# Altium integrated library NXP Semiconductors Standard MOSFETs.IntLib: 477 symbols (part 5 of 14)
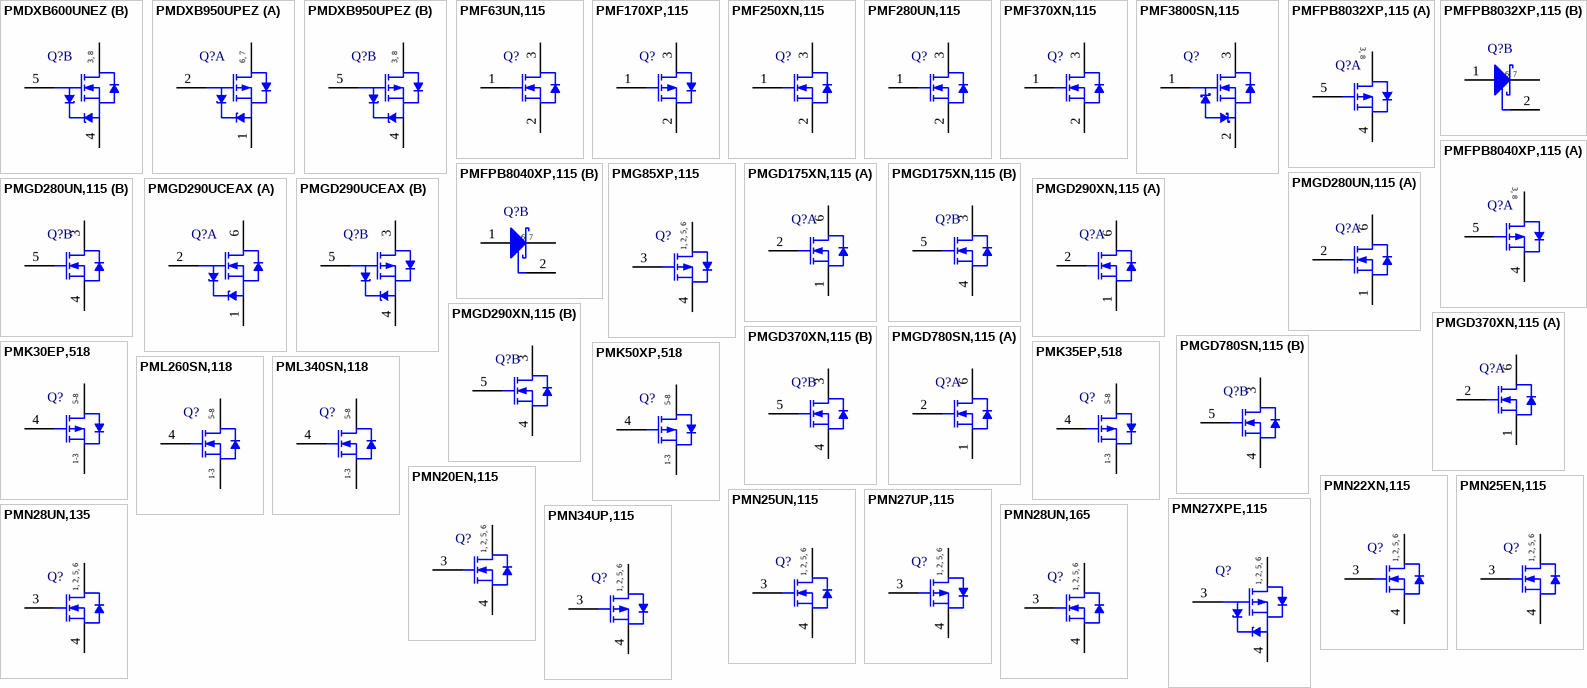
[diagram p16: symbols PMDXB600UNEZ to PMN34UP,115]

## PMDXB950UPEZ
designator Q?
Dual P-Channel Trench MOSFET, -20 V, -0.5 A, -55 to 150 degC, 8-Pin SOT1216; Manufacturer: NXP Semiconductors; PartNumber: PMDXB950UPEZ; Channel Type: P; Ciss [typ] (pF): 43; Coss [typ] (pF): 14; VGSth [typ] (V): -0.7; DatasheetVersion: Rev. 1; PackageVersion: 13-03-06, 03/2013; PackageReference: SOT1216; PackageDescription: 6-Pin Small Outline No-Lead, Body 1.1 x 1 mm, Pitch 0.35 mm; Supplier 1: Digi-Key; Supplier Part Number 1: PMDXB950UPEZ-ND; Supplier 2: Newark; Supplier Part Number 2: 23X8429; Supplier 3: Mouser; Supplier Part Number 3: 771-PMDXB950UPEZ; ID [max] (A): -0.5; VDS [max] (V): -20; Mounting Technology: Surface Mount; ComponentLink1Description: Manufacturer URL; ComponentLink1URL: http://www.nxp.com/; ComponentLink2Description: Datasheet; ComponentLink2URL: http://www.nxp.com/documents/data_sheet/PMDXB950UPE.pdf; ComponentLink3Description: Package Specification; ComponentLink3URL: http://www.nxp.com/documents/outline_drawing/sot1216_po.pdf
footprint NXP-SOT1216_N (SON, 6-Leads, Body 1.15x1.05mm, Pitch 0.35mm, 2X Thermal Pad 0.35x0.25mm, IPC Medium Density)
footprint NXP-SOT1216_L (SON, 6-Leads, Body 1.15x1.05mm, Pitch 0.35mm, 2X Thermal Pad 0.35x0.25mm, IPC High Density)
footprint NXP-SOT1216_M (SON, 6-Leads, Body 1.15x1.05mm, Pitch 0.35mm, 2X Thermal Pad 0.35x0.25mm, IPC Low Density)
part A pins: 1 S1 "sourse TR1", 2 G1 "gate TR1", 6 D1 "drain TR1", 7 D1 "drain TR1"
part B pins: 3 D2 "drain TR2", 4 S2 "sourse TR2", 5 G2 "gate TR2", 8 D2 "drain TR2"
part A text: 6, 7
part B text: 3, 8

## PMF63UN,115
designator Q?
Single N-Channel Trench MOSFET, 20 V, -55 to 150 degC, 3-Pin SOT323, Tape and Reel; Manufacturer: NXP Semiconductors; PartNumber: PMF63UN,115; Channel Type: N; Ciss [typ] (pF): 185; Coss [typ] (pF): 53; Packing: Tape & Reel; VDS [max] (V): 20; VGSth [typ] (V): 0.7; DatasheetVersion: Rev. 1; PackageVersion: 06-03-16, 03/2006; PackageReference: SOT323; PackageDescription: 3-Pin Small Outline Transistor Package, Body 2 x 1.25 mm, Pitch 0.65 mm; Supplier 1: Digi-Key; Supplier Part Number 1: 568-10785-2-ND; Supplier 2: Digi-Key; Supplier Part Number 2: 568-10785-1-ND; Supplier 3: Digi-Key; Supplier Part Number 3: 568-10785-6-ND; Supplier 4: Mouser; Supplier Part Number 4: 771-PMF63UN115; Mounting Technology: Surface Mount; Code_JEITA: SC-70; ComponentLink1Description: Manufacturer URL; ComponentLink1URL: http://www.nxp.com/; ComponentLink2Description: Datasheet; ComponentLink2URL: http://www.nxp.com/documents/data_sheet/PMF63UN.pdf; ComponentLink3Description: Package Specification; ComponentLink3URL: http://www.nxp.com/documents/outline_drawing/sot323_po.pdf
footprint NXP-SOT323_N (SOT23, 3-Leads, Body 2.2x1.35mm, Pitch 0.65mm, IPC Medium Density)
footprint NXP-SOT323_L (SOT23, 3-Leads, Body 2.2x1.35mm, Pitch 0.65mm, IPC High Density)
footprint NXP-SOT323_M (SOT23, 3-Leads, Body 2.2x1.35mm, Pitch 0.65mm, IPC Low Density)
pins: 1 G "gate", 2 S "source", 3 D "drain"

## PMF170XP,115
designator Q?
P-Channel Trench MOSFET, -20 V, -1 A, -55 to 150 degC, 3-Pin SOT323, Tape and Reel; Manufacturer: NXP Semiconductors; PartNumber: PMF170XP,115; Channel Type: P; Ciss [typ] (pF): 280; Coss [typ] (pF): 43; Packing: Tape & Reel; VGSth [typ] (V): -0.9; DatasheetVersion: Rev. 2; PackageVersion: 06-03-16, 03/2006; PackageReference: SOT323; PackageDescription: 3-Pin Small Outline Transistor Package, Body 2 x 1.25 mm, Pitch 0.65 mm; Supplier 1: Digi-Key; Supplier Part Number 1: 568-10415-2-ND; Supplier 2: Digi-Key; Supplier Part Number 2: 568-10415-1-ND; Supplier 3: Digi-Key; Supplier Part Number 3: 568-10415-6-ND; Supplier 4: Mouser; Supplier Part Number 4: 771-PMF170XP115; ID [max] (A): -1; VDS [max] (V): -20; Mounting Technology: Surface Mount; Code_JEITA: SC-70; ComponentLink1Description: Manufacturer URL; ComponentLink1URL: http://www.nxp.com/; ComponentLink2Description: Datasheet; ComponentLink2URL: http://www.nxp.com/documents/data_sheet/PMF170XP.pdf; ComponentLink3Description: Package Specification; ComponentLink3URL: http://www.nxp.com/documents/outline_drawing/sot323_po.pdf
footprint NXP-SOT323_N (SOT23, 3-Leads, Body 2.2x1.35mm, Pitch 0.65mm, IPC Medium Density)
footprint NXP-SOT323_L (SOT23, 3-Leads, Body 2.2x1.35mm, Pitch 0.65mm, IPC High Density)
footprint NXP-SOT323_M (SOT23, 3-Leads, Body 2.2x1.35mm, Pitch 0.65mm, IPC Low Density)
pins: 1 G "gate", 2 S "source", 3 D "drain"

## PMF250XN,115
designator Q?
N-Channel Trench MOSFET, 30 V, 0.9 A, -55 to 150 degC, 3-Pin SOT323, Tape and Reel; Manufacturer: NXP Semiconductors; PartNumber: PMF250XN,115; Channel Type: N; Ciss [typ] (pF): 50; Coss [typ] (pF): 10; ID [max] (A): 0.9; Packing: Tape & Reel; VDS [max] (V): 30; VGSth [typ] (V): 1; DatasheetVersion: Rev. 1; PackageVersion: 06-03-16, 03/2006; PackageReference: SOT323; PackageDescription: 3-Pin Small Outline Transistor Package, Body 2 x 1.25 mm, Pitch 0.65 mm; Supplier 1: Digi-Key; Supplier Part Number 1: 568-10784-2-ND; Supplier 2: Digi-Key; Supplier Part Number 2: 568-10784-1-ND; Supplier 3: Digi-Key; Supplier Part Number 3: 568-10784-6-ND; Supplier 4: Mouser; Supplier Part Number 4: 771-PMF250XN,115; Mounting Technology: Surface Mount; Code_JEITA: SC-70; ComponentLink1Description: Manufacturer URL; ComponentLink1URL: http://www.nxp.com/; ComponentLink2Description: Datasheet; ComponentLink2URL: http://www.nxp.com/documents/data_sheet/PMF250XN.pdf; ComponentLink3Description: Package Specification; ComponentLink3URL: http://www.nxp.com/documents/outline_drawing/sot323_po.pdf
footprint NXP-SOT323_N (SOT23, 3-Leads, Body 2.2x1.35mm, Pitch 0.65mm, IPC Medium Density)
footprint NXP-SOT323_L (SOT23, 3-Leads, Body 2.2x1.35mm, Pitch 0.65mm, IPC High Density)
footprint NXP-SOT323_M (SOT23, 3-Leads, Body 2.2x1.35mm, Pitch 0.65mm, IPC Low Density)
pins: 1 G "gate", 2 S "source", 3 D "drain"

## PMF280UN,115
designator Q?
N-Channel uTrenchMOS(TM) Ultra Low Level FET, 20 V, 1.02 A, 3-Pin SOT323, Tape and Reel; Manufacturer: NXP Semiconductors; PartNumber: PMF280UN,115; Channel Type: N; Ciss [typ] (pF): 45; Coss [typ] (pF): 11; ID [max] (A): 1.02; Packing: Tape & Reel; VDS [max] (V): 20; VGSth [typ] (V): 0.7; DatasheetVersion: Rev. 01; PackageVersion: 06-03-16, 03/2006; PackageReference: SOT323; PackageDescription: 3-Pin Small Outline Transistor Package, Body 2 x 1.25 mm, Pitch 0.65 mm; Supplier 1: Digi-Key; Supplier Part Number 1: 568-7413-2-ND; Supplier 2: Digi-Key; Supplier Part Number 2: 568-7413-1-ND; Supplier 3: Digi-Key; Supplier Part Number 3: 568-7413-6-ND; Supplier 4: Farnell; Supplier Part Number 4: 1758094RL; Supplier 5: Farnell; Supplier Part Number 5: 1758094; Supplier 6: Newark; Supplier Part Number 6: 79R2031; Supplier 7: Mouser; Supplier Part Number 7: 771-PMF280UN115; Mounting Technology: Surface Mount; Code_JEITA: SC-70; ComponentLink1Description: Manufacturer URL; ComponentLink1URL: http://www.nxp.com/; ComponentLink2Description: Datasheet; ComponentLink2URL: http://www.nxp.com/documents/data_sheet/PMF280UN.pdf; ComponentLink3Description: Package Specification; ComponentLink3URL: http://www.nxp.com/documents/outline_drawing/sot323_po.pdf
footprint NXP-SOT323_N (SOT23, 3-Leads, Body 2.2x1.35mm, Pitch 0.65mm, IPC Medium Density)
footprint NXP-SOT323_L (SOT23, 3-Leads, Body 2.2x1.35mm, Pitch 0.65mm, IPC High Density)
footprint NXP-SOT323_M (SOT23, 3-Leads, Body 2.2x1.35mm, Pitch 0.65mm, IPC Low Density)
pins: 1 G "gate", 2 S "source", 3 D "drain"

## PMF370XN,115
designator Q?
N-Channel TrenchMOS Extremely Low Level FET, 30 V, 0.87 A, 3-Pin SOT323, Tape and Reel; Manufacturer: NXP Semiconductors; PartNumber: PMF370XN,115; Channel Type: N; Ciss [typ] (pF): 37; Coss [typ] (pF): 8.5; ID [max] (A): 0.87; Packing: Tape & Reel; VDS [max] (V): 30; VGSth [typ] (V): 1; DatasheetVersion: Rev. 03; PackageVersion: 06-03-16, 03/2006; PackageReference: SOT323; PackageDescription: 3-Pin Small Outline Transistor Package, Body 2 x 1.25 mm, Pitch 0.65 mm; Supplier 1: Digi-Key; Supplier Part Number 1: 568-6871-2-ND; Supplier 2: Digi-Key; Supplier Part Number 2: 568-6871-1-ND; Supplier 3: Digi-Key; Supplier Part Number 3: 568-6871-6-ND; Supplier 4: Farnell; Supplier Part Number 4: 1758096RL; Supplier 5: Farnell; Supplier Part Number 5: 1758096; Supplier 6: Newark; Supplier Part Number 6: 34R4569; Supplier 7: Newark; Supplier Part Number 7: 79R2033; Supplier 8: Mouser; Supplier Part Number 8: 771-PMF370XN115; Mounting Technology: Surface Mount; Code_JEITA: SC-70; ComponentLink1Description: Manufacturer URL; ComponentLink1URL: http://www.nxp.com/; ComponentLink2Description: Datasheet; ComponentLink2URL: http://www.nxp.com/documents/data_sheet/PMF370XN.pdf; ComponentLink3Description: Package Specification; ComponentLink3URL: http://www.nxp.com/documents/outline_drawing/sot323_po.pdf
footprint NXP-SOT323_N (SOT23, 3-Leads, Body 2.2x1.35mm, Pitch 0.65mm, IPC Medium Density)
footprint NXP-SOT323_L (SOT23, 3-Leads, Body 2.2x1.35mm, Pitch 0.65mm, IPC High Density)
footprint NXP-SOT323_M (SOT23, 3-Leads, Body 2.2x1.35mm, Pitch 0.65mm, IPC Low Density)
pins: 1 G "gate", 2 S "source", 3 D "drain"

## PMF3800SN,115
designator Q?
N-Channel TrenchMOS Standard Level FET, 60 V, 0.26 A, 3-Pin SOT323, Tape and Reel; Manufacturer: NXP Semiconductors; PartNumber: PMF3800SN,115; Channel Type: N; Ciss [typ] (pF): 13; Coss [typ] (pF): 8; ID [max] (A): 0.26; Packing: Tape & Reel; Qr [typ] (nC): 30; VDS [max] (V): 60; VGSth [typ] (V): 2; DatasheetVersion: Rev. 03; PackageVersion: 06-03-16, 03/2006; PackageReference: SOT323; PackageDescription: 3-Pin Small Outline Transistor Package, Body 2 x 1.25 mm, Pitch 0.65 mm; Supplier 1: Digi-Key; Supplier Part Number 1: 568-11275-2-ND; Supplier 2: Digi-Key; Supplier Part Number 2: 568-11275-1-ND; Supplier 3: Digi-Key; Supplier Part Number 3: 568-11275-6-ND; Supplier 4: Mouser; Supplier Part Number 4: 771-PMF3800SN,115; Mounting Technology: Surface Mount; Code_JEITA: SC-70; ComponentLink1Description: Manufacturer URL; ComponentLink1URL: http://www.nxp.com/; ComponentLink2Description: Datasheet; ComponentLink2URL: http://www.nxp.com/documents/data_sheet/PMF3800SN.pdf; ComponentLink3Description: Package Specification; ComponentLink3URL: http://www.nxp.com/documents/outline_drawing/sot323_po.pdf
footprint NXP-SOT323_N (SOT23, 3-Leads, Body 2.2x1.35mm, Pitch 0.65mm, IPC Medium Density)
footprint NXP-SOT323_L (SOT23, 3-Leads, Body 2.2x1.35mm, Pitch 0.65mm, IPC High Density)
footprint NXP-SOT323_M (SOT23, 3-Leads, Body 2.2x1.35mm, Pitch 0.65mm, IPC Low Density)
pins: 1 G, 2 S, 3 D

## PMFPB8032XP,115
designator Q?
P-Channel MOSFET-Schottky Combination, -20 V, -55 to 150 degC, 8-Pin SOT1118, Reel; Manufacturer: NXP Semiconductors; PartNumber: PMFPB8032XP,115; Channel Type: P; Ciss [typ] (pF): 550; Coss [typ] (pF): 63; VGSth [typ] (V): -0.6; DatasheetVersion: Rev. 1; PackageVersion: 13-06-06, 06/2013; PackageReference: SOT1118; PackageDescription: 6-Pin Small Outline No-Lead, Body 2 x 2 mm, Pitch 0.65 mm; Supplier 1: Digi-Key; Supplier Part Number 1: 568-10788-2-ND; Supplier 2: Digi-Key; Supplier Part Number 2: 568-10788-1-ND; Supplier 3: Digi-Key; Supplier Part Number 3: 568-10788-6-ND; Supplier 4: Mouser; Supplier Part Number 4: 771-PMFPB8032XP,115; Packing: Reel; VDS [max] (V): -20; Mounting Technology: Surface Mount; ComponentLink1Description: Manufacturer URL; ComponentLink1URL: http://www.nxp.com/; ComponentLink2Description: Datasheet; ComponentLink2URL: http://www.nxp.com/documents/data_sheet/PMFPB8032XP.pdf; ComponentLink3Description: Package Specification; ComponentLink3URL: http://www.nxp.com/documents/outline_drawing/sot1118_po.pdf
footprint NXP-SOT1118_N (SON, 6-Leads, Body 2.1x2.1mm, Pitch 0.65mm, 2X Thermal Pad 0.67x1 mm, IPC Medium Density)
footprint NXP-SOT1118_L (SON, 6-Leads, Body 2.1x2.1mm, Pitch 0.65mm, 2X Thermal Pad 0.67x1 mm, IPC High Density)
footprint NXP-SOT1118_M (SON, 6-Leads, Body 2.1x2.1mm, Pitch 0.65mm, 2X Thermal Pad 0.67x1 mm, IPC Low Density)
part A pins: 3 D "drain", 4 S "source", 5 G "gate", 8 D "drain"
part B pins: 1 A "anode", 2 NC "not connected", 6 K "cathode", 7 K "cathode"
part A text: 3, 8
part B text: 6, 7

## PMFPB8040XP,115
designator Q?
P-Channel MOSFET-Schottky Combination, -20 V, -55 to 150 degC, 8-Pin SOT1118, Reel; Manufacturer: NXP Semiconductors; PartNumber: PMFPB8040XP,115; Channel Type: P; Ciss [typ] (pF): 550; Coss [typ] (pF): 63; VGSth [typ] (V): -0.6; DatasheetVersion: Rev. 1; PackageVersion: 13-06-06, 06/2013; PackageReference: SOT1118; PackageDescription: 6-Pin Small Outline No-Lead, Body 2 x 2 mm, Pitch 0.65 mm; Supplier 1: Digi-Key; Supplier Part Number 1: 568-10789-2-ND; Supplier 2: Digi-Key; Supplier Part Number 2: 568-10789-1-ND; Supplier 3: Digi-Key; Supplier Part Number 3: 568-10789-6-ND; Supplier 4: Mouser; Supplier Part Number 4: 771-PMFPB8040XP,115; Packing: Reel; VDS [max] (V): -20; Mounting Technology: Surface Mount; ComponentLink1Description: Manufacturer URL; ComponentLink1URL: http://www.nxp.com/; ComponentLink2Description: Datasheet; ComponentLink2URL: http://www.nxp.com/documents/data_sheet/PMFPB8040XP.pdf; ComponentLink3Description: Package Specification; ComponentLink3URL: http://www.nxp.com/documents/outline_drawing/sot1118_po.pdf
footprint NXP-SOT1118_N (SON, 6-Leads, Body 2.1x2.1mm, Pitch 0.65mm, 2X Thermal Pad 0.67x1 mm, IPC Medium Density)
footprint NXP-SOT1118_L (SON, 6-Leads, Body 2.1x2.1mm, Pitch 0.65mm, 2X Thermal Pad 0.67x1 mm, IPC High Density)
footprint NXP-SOT1118_M (SON, 6-Leads, Body 2.1x2.1mm, Pitch 0.65mm, 2X Thermal Pad 0.67x1 mm, IPC Low Density)
part A pins: 3 D "drain", 4 S "source", 5 G "gate", 8 D "drain"
part B pins: 1 A "anode", 2 NC "not connected", 6 K "cathode", 7 K "cathode"
part A text: 3, 8
part B text: 6, 7

## PMG85XP,115
designator Q?
P-Channel Trench MOSFET, -20 V, -2 A, -55 to 150 degC, 6-Pin SOT363, Tape and Reel; Manufacturer: NXP Semiconductors; PartNumber: PMG85XP,115; Channel Type: P; Ciss [typ] (pF): 560; Coss [typ] (pF): 80; Packing: Tape & Reel; VGSth [typ] (V): -0.9; DatasheetVersion: Rev. 1; PackageVersion: 06-03-16, 03/2006; PackageReference: SOT363; PackageDescription: 6-Pin Small Outline Transistor Package, Body 2 x 1.25 mm, Pitch 0.65 mm; Supplier 1: Digi-Key; Supplier Part Number 1: 568-10791-2-ND; Supplier 2: Digi-Key; Supplier Part Number 2: 568-10791-1-ND; Supplier 3: Digi-Key; Supplier Part Number 3: 568-10791-6-ND; Supplier 4: Mouser; Supplier Part Number 4: 771-PMG85XP115; ID [max] (A): -2; VDS [max] (V): -20; Mounting Technology: Surface Mount; Code_JEITA: SC-88; ComponentLink1Description: Manufacturer URL; ComponentLink1URL: http://www.nxp.com/; ComponentLink2Description: Datasheet; ComponentLink2URL: http://www.nxp.com/documents/data_sheet/PMG85XP.pdf; ComponentLink3Description: Package Specification; ComponentLink3URL: http://www.nxp.com/documents/outline_drawing/sot363_po.pdf
footprint NXP-SOT363_N (SOT23, 6-Leads, Body 2.2x1.35mm, Pitch 0.65mm, IPC Medium Density)
footprint NXP-SOT363_L (SOT23, 6-Leads, Body 2.2x1.35mm, Pitch 0.65mm, IPC High Density)
footprint NXP-SOT363_M (SOT23, 6-Leads, Body 2.2x1.35mm, Pitch 0.65mm, IPC Low Density)
pins: 1 D "drain", 2 D "drain", 3 G "gate", 4 S "source", 5 D "drain", 6 D "drain"
text: 1, 2, 5, 6

## PMGD175XN,115
designator Q?
Dual N-Channel Trench MOSFET, 30 V, -55 to 150 degC, 6-Pin SOT363, Tape and Reel; Manufacturer: NXP Semiconductors; PartNumber: PMGD175XN,115; Channel Type: N; Ciss [typ] (pF): 75; Coss [typ] (pF): 30; Packing: Tape & Reel; VGSth [typ] (V): 1; DatasheetVersion: Rev. 1; PackageVersion: 06-03-16, 03/2006; PackageReference: SOT363; PackageDescription: 6-Pin Small Outline Transistor Package, Body 2 x 1.25 mm, Pitch 0.65 mm; Supplier 1: Digi-Key; Supplier Part Number 1: 568-10793-2-ND; Supplier 2: Digi-Key; Supplier Part Number 2: 568-10793-1-ND; Supplier 3: Digi-Key; Supplier Part Number 3: 568-10793-6-ND; Supplier 4: Newark; Supplier Part Number 4: 45W9005; Supplier 5: Mouser; Supplier Part Number 5: 771-PMGD175XN115; VDS [max] (V): 30; Mounting Technology: Surface Mount; Code_JEITA: SC-88; ComponentLink1Description: Manufacturer URL; ComponentLink1URL: http://www.nxp.com/; ComponentLink2Description: Datasheet; ComponentLink2URL: http://www.nxp.com/documents/data_sheet/PMGD175XN.pdf; ComponentLink3Description: Package Specification; ComponentLink3URL: http://www.nxp.com/documents/outline_drawing/sot363_po.pdf
footprint NXP-SOT363_N (SOT23, 6-Leads, Body 2.2x1.35mm, Pitch 0.65mm, IPC Medium Density)
footprint NXP-SOT363_L (SOT23, 6-Leads, Body 2.2x1.35mm, Pitch 0.65mm, IPC High Density)
footprint NXP-SOT363_M (SOT23, 6-Leads, Body 2.2x1.35mm, Pitch 0.65mm, IPC Low Density)
part A pins: 1 S1 "source 1", 2 G1 "gate 1", 6 D1 "drain 1"
part B pins: 3 D2 "drain 2", 4 S2 "source 2", 5 G2 "gate 2"

## PMGD280UN,115
designator Q?
Dual N-Channel uTrenchMOS(TM) Ultra Low Level FET, 20 V, 0.87 A, 6-Pin SOT363, Tape and Reel; Manufacturer: NXP Semiconductors; PartNumber: PMGD280UN,115; Channel Type: N; Ciss [typ] (pF): 45; Coss [typ] (pF): 11; ID [max] (A): 0.87; Packing: Tape & Reel; VDS [max] (V): 20; VGSth [typ] (V): 0.7; DatasheetVersion: Rev. 01; PackageVersion: 06-03-16, 03/2006; PackageReference: SOT363; PackageDescription: 6-Pin Small Outline Transistor Package, Body 2 x 1.25 mm, Pitch 0.65 mm; Supplier 1: Digi-Key; Supplier Part Number 1: 568-2365-2-ND; Supplier 2: Digi-Key; Supplier Part Number 2: 568-2365-1-ND; Supplier 3: Digi-Key; Supplier Part Number 3: 568-2365-6-ND; Supplier 4: Farnell; Supplier Part Number 4: 1758098; Supplier 5: Farnell; Supplier Part Number 5: 1758098RL; Supplier 6: Newark; Supplier Part Number 6: 70R7774; Supplier 7: Newark; Supplier Part Number 7: 34R4571; Supplier 8: Mouser; Supplier Part Number 8: 771-PMGD280UN-T/R; Mounting Technology: Surface Mount; Code_JEITA: SC-88; ComponentLink1Description: Manufacturer URL; ComponentLink1URL: http://www.nxp.com/; ComponentLink2Description: Datasheet; ComponentLink2URL: http://www.nxp.com/documents/data_sheet/PMGD280UN.pdf; ComponentLink3Description: Package Specification; ComponentLink3URL: http://www.nxp.com/documents/outline_drawing/sot363_po.pdf
footprint NXP-SOT363_N (SOT23, 6-Leads, Body 2.2x1.35mm, Pitch 0.65mm, IPC Medium Density)
footprint NXP-SOT363_L (SOT23, 6-Leads, Body 2.2x1.35mm, Pitch 0.65mm, IPC High Density)
footprint NXP-SOT363_M (SOT23, 6-Leads, Body 2.2x1.35mm, Pitch 0.65mm, IPC Low Density)
part A pins: 1 S1 "source 1", 2 G1 "gate 1", 6 D1 "drain 1"
part B pins: 3 D2 "drain 2", 4 S2 "source 2", 5 G2 "gate 2"

## PMGD290UCEAX
designator Q?
Dual N/P-Channel Trench MOSFET, 20 / -20 V, 0.725 / -0.5 A, -55 to 150 degC, 6-Pin SOT363, Tape and Reel; Manufacturer: NXP Semiconductors; PartNumber: PMGD290UCEAX; Channel Type: N/P; Packing: Tape & Reel; DatasheetVersion: Rev. 3; PackageVersion: 06-03-16, 03/2006; PackageReference: SOT363; PackageDescription: 6-Pin Small Outline Transistor Package, Body 2 x 1.25 mm, Pitch 0.65 mm; Supplier 1: Digi-Key; Supplier Part Number 1: 568-10794-2-ND; Supplier 2: Digi-Key; Supplier Part Number 2: 568-10794-1-ND; Supplier 3: Digi-Key; Supplier Part Number 3: 568-10794-6-ND; Supplier 4: Mouser; Supplier Part Number 4: 771-PMGD290UCEAX; Mounting Technology: Surface Mount; Code_JEITA: SC-88; ComponentLink1Description: Manufacturer URL; ComponentLink1URL: http://www.nxp.com/; ComponentLink2Description: Datasheet; ComponentLink2URL: http://www.nxp.com/documents/data_sheet/PMGD290UCEA.pdf; ComponentLink3Description: Package Specification; ComponentLink3URL: http://www.nxp.com/documents/outline_drawing/sot363_po.pdf
footprint NXP-SOT363_N (SOT23, 6-Leads, Body 2.2x1.35mm, Pitch 0.65mm, IPC Medium Density)
footprint NXP-SOT363_L (SOT23, 6-Leads, Body 2.2x1.35mm, Pitch 0.65mm, IPC High Density)
footprint NXP-SOT363_M (SOT23, 6-Leads, Body 2.2x1.35mm, Pitch 0.65mm, IPC Low Density)
part A pins: 1 S1 "source TR1", 2 G1 "gate TR1", 6 D1 "drain TR1"
part B pins: 3 D2 "drain TR2", 4 S2 "source TR2", 5 G2 "gate TR2"

## PMGD290XN,115
designator Q?
Dual N-Channel uTrenchMOS(TM) Extremely Low Level FET, 20 V, 0.86 A, 6-Pin SOT363, Tape and Reel; Manufacturer: NXP Semiconductors; PartNumber: PMGD290XN,115; Channel Type: N; Ciss [typ] (pF): 34; Coss [typ] (pF): 12; ID [max] (A): 0.86; Packing: Tape & Reel; VDS [max] (V): 20; VGSth [typ] (V): 1; DatasheetVersion: Rev. 01; PackageVersion: 06-03-16, 03/2006; PackageReference: SOT363; PackageDescription: 6-Pin Small Outline Transistor Package, Body 2 x 1.25 mm, Pitch 0.65 mm; Supplier 1: Digi-Key; Supplier Part Number 1: 568-2366-2-ND; Supplier 2: Digi-Key; Supplier Part Number 2: 568-2366-1-ND; Supplier 3: Digi-Key; Supplier Part Number 3: 568-2366-6-ND; Supplier 4: Farnell; Supplier Part Number 4: 1758099; Supplier 5: Farnell; Supplier Part Number 5: 1758099RL; Supplier 6: Farnell; Supplier Part Number 6: 2395486; Supplier 7: Newark; Supplier Part Number 7: 75R4829; Supplier 8: Newark; Supplier Part Number 8: 70R7775; Supplier 9: Mouser; Supplier Part Number 9: 771-PMGD290XN-T/R; Mounting Technology: Surface Mount; Code_JEITA: SC-88; ComponentLink1Description: Manufacturer URL; ComponentLink1URL: http://www.nxp.com/; ComponentLink2Description: Datasheet; ComponentLink2URL: http://www.nxp.com/documents/data_sheet/PMGD290XN.pdf; ComponentLink3Description: Package Specification; ComponentLink3URL: http://www.nxp.com/documents/outline_drawing/sot363_po.pdf
footprint NXP-SOT363_N (SOT23, 6-Leads, Body 2.2x1.35mm, Pitch 0.65mm, IPC Medium Density)
footprint NXP-SOT363_L (SOT23, 6-Leads, Body 2.2x1.35mm, Pitch 0.65mm, IPC High Density)
footprint NXP-SOT363_M (SOT23, 6-Leads, Body 2.2x1.35mm, Pitch 0.65mm, IPC Low Density)
part A pins: 1 S1 "source 1", 2 G1 "gate 1", 6 D1 "drain 1"
part B pins: 3 D2 "drain 2", 4 S2 "source 2", 5 G2 "gate 2"

## PMGD370XN,115
designator Q?
Dual N-Channel uTrenchMOS(TM) Extremely Low Level FET, 30 V, 0.74 A, 6-Pin SOT363, Tape and Reel; Manufacturer: NXP Semiconductors; PartNumber: PMGD370XN,115; Channel Type: N; Ciss [typ] (pF): 37; Coss [typ] (pF): 8.5; ID [max] (A): 0.74; Packing: Tape & Reel; VDS [max] (V): 30; VGSth [typ] (V): 1; DatasheetVersion: Rev. 01; PackageVersion: 06-03-16, 03/2006; PackageReference: SOT363; PackageDescription: 6-Pin Small Outline Transistor Package, Body 2 x 1.25 mm, Pitch 0.65 mm; Supplier 1: Digi-Key; Supplier Part Number 1: 568-2367-2-ND; Supplier 2: Digi-Key; Supplier Part Number 2: 568-2367-1-ND; Supplier 3: Digi-Key; Supplier Part Number 3: 568-2367-6-ND; Supplier 4: Newark; Supplier Part Number 4: 70R7776; Supplier 5: Mouser; Supplier Part Number 5: 771-PMGD370XN-T/R; Mounting Technology: Surface Mount; Code_JEITA: SC-88; ComponentLink1Description: Manufacturer URL; ComponentLink1URL: http://www.nxp.com/; ComponentLink2Description: Datasheet; ComponentLink2URL: http://www.nxp.com/documents/data_sheet/PMGD370XN.pdf; ComponentLink3Description: Package Specification; ComponentLink3URL: http://www.nxp.com/documents/outline_drawing/sot363_po.pdf
footprint NXP-SOT363_N (SOT23, 6-Leads, Body 2.2x1.35mm, Pitch 0.65mm, IPC Medium Density)
footprint NXP-SOT363_L (SOT23, 6-Leads, Body 2.2x1.35mm, Pitch 0.65mm, IPC High Density)
footprint NXP-SOT363_M (SOT23, 6-Leads, Body 2.2x1.35mm, Pitch 0.65mm, IPC Low Density)
part A pins: 1 S1 "source 1", 2 G1 "gate 1", 6 D1 "drain 1"
part B pins: 3 D2 "drain 2", 4 S2 "source 2", 5 G2 "gate 2"

## PMGD780SN,115
designator Q?
Dual N-Channel uTrenchMOS Standard Level FET, 60 V, 0.49 A, 6-Pin SOT363, Tape and Reel; Manufacturer: NXP Semiconductors; PartNumber: PMGD780SN,115; Channel Type: N; Ciss [typ] (pF): 23; Coss [typ] (pF): 5; ID [max] (A): 0.49; Packing: Tape & Reel; VDS [max] (V): 60; VGSth [typ] (V): 2; DatasheetVersion: Rev. 02; PackageVersion: 06-03-16, 03/2006; PackageReference: SOT363; PackageDescription: 6-Pin Small Outline Transistor Package, Body 2 x 1.25 mm, Pitch 0.65 mm; Supplier 1: Digi-Key; Supplier Part Number 1: 568-2369-2-ND; Supplier 2: Digi-Key; Supplier Part Number 2: 568-2369-1-ND; Supplier 3: Digi-Key; Supplier Part Number 3: 568-2369-6-ND; Supplier 4: Farnell; Supplier Part Number 4: 1758102; Supplier 5: Farnell; Supplier Part Number 5: 1758102RL; Supplier 6: Newark; Supplier Part Number 6: 75R4832; Supplier 7: Newark; Supplier Part Number 7: 34R4574; Supplier 8: Newark; Supplier Part Number 8: 70R7778; Supplier 9: Mouser; Supplier Part Number 9: 771-PMGD780SN-T/R; Mounting Technology: Surface Mount; Code_JEITA: SC-88; ComponentLink1Description: Manufacturer URL; ComponentLink1URL: http://www.nxp.com/; ComponentLink2Description: Datasheet; ComponentLink2URL: http://www.nxp.com/documents/data_sheet/PMGD780SN.pdf; ComponentLink3Description: Package Specification; ComponentLink3URL: http://www.nxp.com/documents/outline_drawing/sot363_po.pdf
footprint NXP-SOT363_N (SOT23, 6-Leads, Body 2.2x1.35mm, Pitch 0.65mm, IPC Medium Density)
footprint NXP-SOT363_L (SOT23, 6-Leads, Body 2.2x1.35mm, Pitch 0.65mm, IPC High Density)
footprint NXP-SOT363_M (SOT23, 6-Leads, Body 2.2x1.35mm, Pitch 0.65mm, IPC Low Density)
part A pins: 1 S1 "source 1", 2 G1 "gate 1", 6 D1 "drain 1"
part B pins: 3 D2 "drain 2", 4 S2 "source 2", 5 G2 "gate 2"

## PMK30EP,518
designator Q?
P-Channel TrenchMOS Extremely Low Level FET, -30 V, -14.9 A, 8-Pin SOT96-1, Reel; Manufacturer: NXP Semiconductors; PartNumber: PMK30EP,518; Channel Type: P; Ciss [typ] (pF): 2240; Coss [typ] (pF): 325; Code_IEC: 76000; DatasheetVersion: Rev. 04; PackageVersion: 03-02-18, 02/2003; PackageReference: SOT96-1; PackageDescription: 8-Pin Plastic Small Outline Package, Body 4.9 x 3.9 mm, Pitch 1.27 mm; Supplier 1: Digi-Key; Supplier Part Number 1: 568-9694-2-ND; Supplier 2: Digi-Key; Supplier Part Number 2: 568-9694-1-ND; Supplier 3: Digi-Key; Supplier Part Number 3: 568-9694-6-ND; Supplier 4: Mouser; Supplier Part Number 4: 771-PMK30EP518; ID [max] (A): -14.9; Packing: Reel; VDS [max] (V): -30; Mounting Technology: Surface Mount; Code_JEDEC: MS-012; ComponentLink1Description: Manufacturer URL; ComponentLink1URL: http://www.nxp.com/; ComponentLink2Description: Datasheet; ComponentLink2URL: http://www.nxp.com/documents/data_sheet/PMK30EP.pdf; ComponentLink3Description: Package Specification; ComponentLink3URL: http://www.nxp.com/documents/outline_drawing/sot096-1_po.pdf
footprint NXP-SOT96-1_N (SOIC, 8-Leads, Body 5x4mm, Pitch 1.27mm, IPC Medium Density)
footprint NXP-SOT96-1_L (SOIC, 8-Leads, Body 5x4mm, Pitch 1.27mm, IPC High Density)
footprint NXP-SOT96-1_M (SOIC, 8-Leads, Body 5x4mm, Pitch 1.27mm, IPC Low Density)
pins: 1 S "source", 2 S "source", 3 S "source", 4 G "gate", 5 D "drain", 6 D "drain", 7 D "drain", 8 D "drain"
text: 5-8; 1-3

## PMK35EP,518
designator Q?
P-Channel TrenchMOS Extremely Low Level FET, -30 V, -14.9 A, 8-Pin SOT96-1, Reel; Manufacturer: NXP Semiconductors; PartNumber: PMK35EP,518; Channel Type: P; Ciss [typ] (pF): 2100; Coss [typ] (pF): 365; Code_IEC: 76000; DatasheetVersion: Rev. 02; PackageVersion: 03-02-18, 02/2003; PackageReference: SOT96-1; PackageDescription: 8-Pin Plastic Small Outline Package, Body 4.9 x 3.9 mm, Pitch 1.27 mm; Supplier 1: Digi-Key; Supplier Part Number 1: 568-9695-2-ND; Supplier 2: Digi-Key; Supplier Part Number 2: 568-9695-1-ND; Supplier 3: Digi-Key; Supplier Part Number 3: 568-9695-6-ND; Supplier 4: Newark; Supplier Part Number 4: 70R7782; Supplier 5: Mouser; Supplier Part Number 5: 771-PMK35EP518; ID [max] (A): -14.9; Packing: Reel; VDS [max] (V): -30; Mounting Technology: Surface Mount; Code_JEDEC: MS-012; ComponentLink1Description: Manufacturer URL; ComponentLink1URL: http://www.nxp.com/; ComponentLink2Description: Datasheet; ComponentLink2URL: http://www.nxp.com/documents/data_sheet/PMK35EP.pdf; ComponentLink3Description: Package Specification; ComponentLink3URL: http://www.nxp.com/documents/outline_drawing/sot096-1_po.pdf
footprint NXP-SOT96-1_N (SOIC, 8-Leads, Body 5x4mm, Pitch 1.27mm, IPC Medium Density)
footprint NXP-SOT96-1_L (SOIC, 8-Leads, Body 5x4mm, Pitch 1.27mm, IPC High Density)
footprint NXP-SOT96-1_M (SOIC, 8-Leads, Body 5x4mm, Pitch 1.27mm, IPC Low Density)
pins: 1 S "source", 2 S "source", 3 S "source", 4 G "gate", 5 D "drain", 6 D "drain", 7 D "drain", 8 D "drain"
text: 5-8; 1-3

## PMK50XP,518
designator Q?
P-Channel TrenchMOS Extremely Low Level FET, -20 V, -7.9 A, 8-Pin SOT96-1, Reel; Manufacturer: NXP Semiconductors; PartNumber: PMK50XP,518; Channel Type: P; Ciss [typ] (pF): 1020; Coss [typ] (pF): 140; VGSth [typ] (V): -0.75; Code_IEC: 76000; DatasheetVersion: Rev. 02; PackageVersion: 03-02-18, 02/2003; PackageReference: SOT96-1; PackageDescription: 8-Pin Plastic Small Outline Package, Body 4.9 x 3.9 mm, Pitch 1.27 mm; Supplier 1: Digi-Key; Supplier Part Number 1: 568-9696-2-ND; Supplier 2: Digi-Key; Supplier Part Number 2: 568-9696-1-ND; Supplier 3: Digi-Key; Supplier Part Number 3: 568-9696-6-ND; Supplier 4: Mouser; Supplier Part Number 4: 771-PMK50XP518; ID [max] (A): -7.9; Packing: Reel; VDS [max] (V): -20; Mounting Technology: Surface Mount; Code_JEDEC: MS-012; ComponentLink1Description: Manufacturer URL; ComponentLink1URL: http://www.nxp.com/; ComponentLink2Description: Datasheet; ComponentLink2URL: http://www.nxp.com/documents/data_sheet/PMK50XP.pdf; ComponentLink3Description: Package Specification; ComponentLink3URL: http://www.nxp.com/documents/outline_drawing/sot096-1_po.pdf
footprint NXP-SOT96-1_N (SOIC, 8-Leads, Body 5x4mm, Pitch 1.27mm, IPC Medium Density)
footprint NXP-SOT96-1_L (SOIC, 8-Leads, Body 5x4mm, Pitch 1.27mm, IPC High Density)
footprint NXP-SOT96-1_M (SOIC, 8-Leads, Body 5x4mm, Pitch 1.27mm, IPC Low Density)
pins: 1 S "source", 2 S "source", 3 S "source", 4 G "gate", 5 D "drain", 6 D "drain", 7 D "drain", 8 D "drain"
text: 5-8; 1-3

## PML260SN,118
designator Q?
N-Channel TrenchMOS Standard Level FET, 200 V, 8.8 A, 8-Pin SOT873-1, Reel; Manufacturer: NXP Semiconductors; PartNumber: PML260SN,118; Channel Type: N; Ciss [typ] (pF): 657; Coss [typ] (pF): 74; ID [max] (A): 8.8; Qr [typ] (nC): 267; VDS [max] (V): 200; VGSth [typ] (V): 3; DatasheetVersion: Rev. 02; PackageVersion: 05-06-21, 06/2005; PackageReference: SOT873-1_A; PackageDescription: 8-Pin Small Outline No-Lead, Body 3.3 x 3.3 mm, Pitch 0.65 mm; Supplier 1: Digi-Key; Supplier Part Number 1: 568-9716-2-ND; Supplier 2: Digi-Key; Supplier Part Number 2: 568-9716-1-ND; Supplier 3: Digi-Key; Supplier Part Number 3: 568-9716-6-ND; Supplier 4: Mouser; Supplier Part Number 4: 771-PML260SN118; Packing: Reel; Mounting Technology: Surface Mount; ComponentLink1Description: Manufacturer URL; ComponentLink1URL: http://www.nxp.com/; ComponentLink2Description: Datasheet; ComponentLink2URL: http://www.nxp.com/documents/data_sheet/PML260SN.pdf; ComponentLink3Description: Package Specification; ComponentLink3URL: http://www.nxp.com/documents/data_sheet/PML260SN.pdf
footprint NXP-SOT873-1_A_N (SON, 8-Leads, Body 3.4x3.4mm, Pitch 0.65mm, Thermal Pad 2.25x1.63mm, IPC Medium Density)
footprint NXP-SOT873-1_A_L (SON, 8-Leads, Body 3.4x3.4mm, Pitch 0.65mm, Thermal Pad 2.25x1.63mm, IPC High Density)
footprint NXP-SOT873-1_A_M (SON, 8-Leads, Body 3.4x3.4mm, Pitch 0.65mm, Thermal Pad 2.25x1.63mm, IPC Low Density)
pins: 1 S "source", 2 S "source", 3 S "source", 4 G "gate", 5 D "drain", 6 D "drain", 7 D "drain", 8 D "drain"
text: 5-8; 1-3

## PML340SN,118
designator Q?
N-Channel TrenchMOS Standard Level FET, 220 V, 7.3 A, 8-Pin SOT873-1, Reel; Manufacturer: NXP Semiconductors; PartNumber: PML340SN,118; Channel Type: N; Ciss [typ] (pF): 656; Coss [typ] (pF): 69; ID [max] (A): 7.3; Qr [typ] (nC): 340; VDS [max] (V): 220; VGSth [typ] (V): 3; DatasheetVersion: Rev. 01; PackageVersion: 05-06-21, 06/2005; PackageReference: SOT873-1_A; PackageDescription: 8-Pin Small Outline No-Lead, Body 3.3 x 3.3 mm, Pitch 0.65 mm; Supplier 1: Digi-Key; Supplier Part Number 1: 568-9717-2-ND; Supplier 2: Digi-Key; Supplier Part Number 2: 568-9717-1-ND; Supplier 3: Digi-Key; Supplier Part Number 3: 568-9717-6-ND; Supplier 4: Mouser; Supplier Part Number 4: 771-PML340SN118; Packing: Reel; Mounting Technology: Surface Mount; ComponentLink1Description: Manufacturer URL; ComponentLink1URL: http://www.nxp.com/; ComponentLink2Description: Datasheet; ComponentLink2URL: http://www.nxp.com/documents/data_sheet/PML340SN.pdf; ComponentLink3Description: Package Specification; ComponentLink3URL: http://www.nxp.com/documents/data_sheet/PML260SN.pdf
footprint NXP-SOT873-1_A_N (SON, 8-Leads, Body 3.4x3.4mm, Pitch 0.65mm, Thermal Pad 2.25x1.63mm, IPC Medium Density)
footprint NXP-SOT873-1_A_L (SON, 8-Leads, Body 3.4x3.4mm, Pitch 0.65mm, Thermal Pad 2.25x1.63mm, IPC High Density)
footprint NXP-SOT873-1_A_M (SON, 8-Leads, Body 3.4x3.4mm, Pitch 0.65mm, Thermal Pad 2.25x1.63mm, IPC Low Density)
pins: 1 S "source", 2 S "source", 3 S "source", 4 G "gate", 5 D "drain", 6 D "drain", 7 D "drain", 8 D "drain"
text: 5-8; 1-3

## PMN20EN,115
designator Q?
N-Channel Trench MOSFET, 30 V, 6.7 A, -55 to 150 degC, 6-Pin SOT457, Tape and Reel; Manufacturer: NXP Semiconductors; PartNumber: PMN20EN,115; Channel Type: N; Ciss [typ] (pF): 630; Coss [typ] (pF): 155; ID [max] (A): 6.7; Packing: Tape & Reel; VDS [max] (V): 30; VGSth [typ] (V): 1.5; DatasheetVersion: Rev. 1; PackageVersion: 06-03-16, 03/2006; PackageReference: SOT457; PackageDescription: 6-Pin Thin Small Outline Package, Body 2.9 x 1.5 mm, Pitch 0.95 mm; Supplier 1: Digi-Key; Supplier Part Number 1: 568-8416-2-ND; Supplier 2: Digi-Key; Supplier Part Number 2: 568-8416-1-ND; Supplier 3: Digi-Key; Supplier Part Number 3: 568-8416-6-ND; Supplier 4: Farnell; Supplier Part Number 4: 2345402; Supplier 5: Newark; Supplier Part Number 5: 85W3196; Supplier 6: Mouser; Supplier Part Number 6: 771-PMN20EN,115; Mounting Technology: Surface Mount; Code_JEITA: SC-74; ComponentLink1Description: Manufacturer URL; ComponentLink1URL: http://www.nxp.com/; ComponentLink2Description: Datasheet; ComponentLink2URL: http://www.nxp.com/documents/data_sheet/PMN20EN.pdf; ComponentLink3Description: Package Specification; ComponentLink3URL: http://www.nxp.com/documents/outline_drawing/sot457_po.pdf
footprint NXP-SOT457_N (SOP, 6-Leads, Body 3.1x1.7mm, Pitch 0.95mm, IPC Medium Density)
footprint NXP-SOT457_L (SOP, 6-Leads, Body 3.1x1.7mm, Pitch 0.95mm, IPC High Density)
footprint NXP-SOT457_M (SOP, 6-Leads, Body 3.1x1.7mm, Pitch 0.95mm, IPC Low Density)
pins: 1 D "drain", 2 D "drain", 3 G "gate", 4 S "source", 5 D "drain", 6 D "drain"
text: 1, 2, 5, 6

## PMN22XN,115
designator Q?
Single N-Channel Trench MOSFET, 30 V, 5.7 A, -55 to 150 degC, 6-Pin SOT457, Tape and Reel; Manufacturer: NXP Semiconductors; PartNumber: PMN22XN,115; Channel Type: N; Ciss [typ] (pF): 585; Coss [typ] (pF): 1.8; ID [max] (A): 5.7; Packing: Tape & Reel; VDS [max] (V): 30; VGSth [typ] (V): 1; DatasheetVersion: Rev. 1; PackageVersion: 06-03-16, 03/2006; PackageReference: SOT457; PackageDescription: 6-Pin Thin Small Outline Package, Body 2.9 x 1.5 mm, Pitch 0.95 mm; Supplier 1: Digi-Key; Supplier Part Number 1: 568-10796-2-ND; Supplier 2: Digi-Key; Supplier Part Number 2: 568-10796-1-ND; Supplier 3: Digi-Key; Supplier Part Number 3: 568-10796-6-ND; Supplier 4: Mouser; Supplier Part Number 4: 771-PMN22XN,115; Mounting Technology: Surface Mount; Code_JEITA: SC-74; ComponentLink1Description: Manufacturer URL; ComponentLink1URL: http://www.nxp.com/; ComponentLink2Description: Datasheet; ComponentLink2URL: http://www.nxp.com/documents/data_sheet/PMN22XN.pdf; ComponentLink3Description: Package Specification; ComponentLink3URL: http://www.nxp.com/documents/outline_drawing/sot457_po.pdf
footprint NXP-SOT457_N (SOP, 6-Leads, Body 3.1x1.7mm, Pitch 0.95mm, IPC Medium Density)
footprint NXP-SOT457_L (SOP, 6-Leads, Body 3.1x1.7mm, Pitch 0.95mm, IPC High Density)
footprint NXP-SOT457_M (SOP, 6-Leads, Body 3.1x1.7mm, Pitch 0.95mm, IPC Low Density)
pins: 1 D "drain", 2 D "drain", 3 G "gate", 4 S "source", 5 D "drain", 6 D "drain"
text: 1, 2, 5, 6

## PMN25EN,115
designator Q?
N-Channel Trench MOSFET, 30 V, 6.2 A, -55 to 150 degC, 6-Pin SOT457, Tape and Reel; Manufacturer: NXP Semiconductors; PartNumber: PMN25EN,115; Channel Type: N; Ciss [typ] (pF): 492; Coss [typ] (pF): 115; ID [max] (A): 6.2; Packing: Tape & Reel; VDS [max] (V): 30; VGSth [typ] (V): 1.5; DatasheetVersion: Rev. 1; PackageVersion: 06-03-16, 03/2006; PackageReference: SOT457; PackageDescription: 6-Pin Thin Small Outline Package, Body 2.9 x 1.5 mm, Pitch 0.95 mm; Supplier 1: Digi-Key; Supplier Part Number 1: 568-10416-2-ND; Supplier 2: Digi-Key; Supplier Part Number 2: 568-10416-1-ND; Supplier 3: Digi-Key; Supplier Part Number 3: 568-10416-6-ND; Supplier 4: Mouser; Supplier Part Number 4: 771-PMN25EN,115; Mounting Technology: Surface Mount; Code_JEITA: SC-74; ComponentLink1Description: Manufacturer URL; ComponentLink1URL: http://www.nxp.com/; ComponentLink2Description: Datasheet; ComponentLink2URL: http://www.nxp.com/documents/data_sheet/PMN25EN.pdf; ComponentLink3Description: Package Specification; ComponentLink3URL: http://www.nxp.com/documents/outline_drawing/sot457_po.pdf
footprint NXP-SOT457_N (SOP, 6-Leads, Body 3.1x1.7mm, Pitch 0.95mm, IPC Medium Density)
footprint NXP-SOT457_L (SOP, 6-Leads, Body 3.1x1.7mm, Pitch 0.95mm, IPC High Density)
footprint NXP-SOT457_M (SOP, 6-Leads, Body 3.1x1.7mm, Pitch 0.95mm, IPC Low Density)
pins: 1 D "drain", 2 D "drain", 3 G "gate", 4 S "source", 5 D "drain", 6 D "drain"
text: 1, 2, 5, 6

## PMN25UN,115
designator Q?
N-Channel Trench MOSFET, 20 V, 6 A, -55 to 150 degC, 6-Pin SOT457, Tape and Reel; Manufacturer: NXP Semiconductors; PartNumber: PMN25UN,115; Channel Type: N; Ciss [typ] (pF): 470; Coss [typ] (pF): 125; ID [max] (A): 6; Packing: Tape & Reel; VDS [max] (V): 20; VGSth [typ] (V): 0.7; DatasheetVersion: Rev. 1; PackageVersion: 06-03-16, 03/2006; PackageReference: SOT457; PackageDescription: 6-Pin Thin Small Outline Package, Body 2.9 x 1.5 mm, Pitch 0.95 mm; Supplier 1: Digi-Key; Supplier Part Number 1: 568-10417-2-ND; Supplier 2: Digi-Key; Supplier Part Number 2: 568-10417-1-ND; Supplier 3: Digi-Key; Supplier Part Number 3: 568-10417-6-ND; Supplier 4: Mouser; Supplier Part Number 4: 771-PMN25UN,115; Mounting Technology: Surface Mount; Code_JEITA: SC-74; ComponentLink1Description: Manufacturer URL; ComponentLink1URL: http://www.nxp.com/; ComponentLink2Description: Datasheet; ComponentLink2URL: http://www.nxp.com/documents/data_sheet/PMN25UN.pdf; ComponentLink3Description: Package Specification; ComponentLink3URL: http://www.nxp.com/documents/outline_drawing/sot457_po.pdf
footprint NXP-SOT457_N (SOP, 6-Leads, Body 3.1x1.7mm, Pitch 0.95mm, IPC Medium Density)
footprint NXP-SOT457_L (SOP, 6-Leads, Body 3.1x1.7mm, Pitch 0.95mm, IPC High Density)
footprint NXP-SOT457_M (SOP, 6-Leads, Body 3.1x1.7mm, Pitch 0.95mm, IPC Low Density)
pins: 1 D "drain", 2 D "drain", 3 G "gate", 4 S "source", 5 D "drain", 6 D "drain"
text: 1, 2, 5, 6

## PMN27UP,115
designator Q?
P-Channel Trench MOSFET, -20 V, -5.7 A, -55 to 150 degC, 6-Pin SOT457, Tape and Reel; Manufacturer: NXP Semiconductors; PartNumber: PMN27UP,115; Channel Type: P; Ciss [typ] (pF): 2340; Coss [typ] (pF): 210; Packing: Tape & Reel; VGSth [typ] (V): -0.7; DatasheetVersion: Rev. 1; PackageVersion: 06-03-16, 03/2006; PackageReference: SOT457; PackageDescription: 6-Pin Thin Small Outline Package, Body 2.9 x 1.5 mm, Pitch 0.95 mm; Supplier 1: Digi-Key; Supplier Part Number 1: 568-10797-2-ND; Supplier 2: Digi-Key; Supplier Part Number 2: 568-10797-1-ND; Supplier 3: Digi-Key; Supplier Part Number 3: 568-10797-6-ND; Supplier 4: Mouser; Supplier Part Number 4: 771-PMN27UP115; ID [max] (A): -5.7; VDS [max] (V): -20; Mounting Technology: Surface Mount; Code_JEITA: SC-74; ComponentLink1Description: Manufacturer URL; ComponentLink1URL: http://www.nxp.com/; ComponentLink2Description: Datasheet; ComponentLink2URL: http://www.nxp.com/documents/data_sheet/PMN27UP.pdf; ComponentLink3Description: Package Specification; ComponentLink3URL: http://www.nxp.com/documents/outline_drawing/sot457_po.pdf
footprint NXP-SOT457_N (SOP, 6-Leads, Body 3.1x1.7mm, Pitch 0.95mm, IPC Medium Density)
footprint NXP-SOT457_L (SOP, 6-Leads, Body 3.1x1.7mm, Pitch 0.95mm, IPC High Density)
footprint NXP-SOT457_M (SOP, 6-Leads, Body 3.1x1.7mm, Pitch 0.95mm, IPC Low Density)
pins: 1 D "drain", 2 D "drain", 3 G "gate", 4 S "source", 5 D "drain", 6 D "drain"
text: 1, 2, 5, 6

## PMN27XPE,115
designator Q?
Single P-Channel Trench MOSFET, -20 V, -55 to 150 degC, 6-Pin SOT457, Tape and Reel; Manufacturer: NXP Semiconductors; PartNumber: PMN27XPE,115; Channel Type: P; Ciss [typ] (pF): 1770; Coss [typ] (pF): 254; Packing: Tape & Reel; VGSth [typ] (V): -1; DatasheetVersion: Rev. 1; PackageVersion: 06-03-16, 03/2006; PackageReference: SOT457; PackageDescription: 6-Pin Thin Small Outline Package, Body 2.9 x 1.5 mm, Pitch 0.95 mm; Supplier 1: Digi-Key; Supplier Part Number 1: 568-10798-2-ND; Supplier 2: Digi-Key; Supplier Part Number 2: 568-10798-1-ND; Supplier 3: Digi-Key; Supplier Part Number 3: 568-10798-6-ND; Supplier 4: Mouser; Supplier Part Number 4: 771-PMN27XPE115; VDS [max] (V): -20; Mounting Technology: Surface Mount; Code_JEITA: SC-74; ComponentLink1Description: Manufacturer URL; ComponentLink1URL: http://www.nxp.com/; ComponentLink2Description: Datasheet; ComponentLink2URL: http://www.nxp.com/documents/data_sheet/PMN27XPE.pdf; ComponentLink3Description: Package Specification; ComponentLink3URL: http://www.nxp.com/documents/outline_drawing/sot457_po.pdf
footprint NXP-SOT457_N (SOP, 6-Leads, Body 3.1x1.7mm, Pitch 0.95mm, IPC Medium Density)
footprint NXP-SOT457_L (SOP, 6-Leads, Body 3.1x1.7mm, Pitch 0.95mm, IPC High Density)
footprint NXP-SOT457_M (SOP, 6-Leads, Body 3.1x1.7mm, Pitch 0.95mm, IPC Low Density)
pins: 1 D "drain", 2 D "drain", 3 G "gate", 4 S "source", 5 D "drain", 6 D "drain"
text: 1, 2, 5, 6

## PMN28UN,135
designator Q?
N-Channel TrenchMOS(TM) Ultra Low Level FET, 12 V, 5.7 A, 6-Pin SOT457, Tape and Reel; Manufacturer: NXP Semiconductors; PartNumber: PMN28UN,135; Channel Type: N; Ciss [typ] (pF): 740; Coss [typ] (pF): 185; ID [max] (A): 5.7; Packing: Tape & Reel; VDS [max] (V): 12; VGSth [typ] (V): 0.7; DatasheetVersion: Rev. 01; PackageVersion: 06-03-16, 03/2006; PackageReference: SOT457; PackageDescription: 6-Pin Thin Small Outline Package, Body 2.9 x 1.5 mm, Pitch 0.95 mm; Supplier 1: Digi-Key; Supplier Part Number 1: 568-7418-2-ND; Supplier 2: Digi-Key; Supplier Part Number 2: 568-7418-1-ND; Supplier 3: Digi-Key; Supplier Part Number 3: 568-7418-6-ND; Supplier 4: Farnell; Supplier Part Number 4: 1758105RL; Supplier 5: Farnell; Supplier Part Number 5: 1758105; Supplier 6: Newark; Supplier Part Number 6: 79R2036; Supplier 7: Mouser; Supplier Part Number 7: 771-PMN28UN135; Mounting Technology: Surface Mount; Code_JEITA: SC-74; ComponentLink1Description: Manufacturer URL; ComponentLink1URL: http://www.nxp.com/; ComponentLink2Description: Datasheet; ComponentLink2URL: http://www.nxp.com/documents/data_sheet/PMN28UN.pdf; ComponentLink3Description: Package Specification; ComponentLink3URL: http://www.nxp.com/documents/outline_drawing/sot457_po.pdf
footprint NXP-SOT457_N (SOP, 6-Leads, Body 3.1x1.7mm, Pitch 0.95mm, IPC Medium Density)
footprint NXP-SOT457_L (SOP, 6-Leads, Body 3.1x1.7mm, Pitch 0.95mm, IPC High Density)
footprint NXP-SOT457_M (SOP, 6-Leads, Body 3.1x1.7mm, Pitch 0.95mm, IPC Low Density)
pins: 1 D "drain", 2 D "drain", 3 G "gate", 4 S "source", 5 D "drain", 6 D "drain"
text: 1, 2, 5, 6

## PMN28UN,165
designator Q?
N-Channel TrenchMOS(TM) Ultra Low Level FET, 12 V, 5.7 A, 6-Pin SOT457, Tape and Reel; Manufacturer: NXP Semiconductors; PartNumber: PMN28UN,165; Channel Type: N; Ciss [typ] (pF): 740; Coss [typ] (pF): 185; ID [max] (A): 5.7; Packing: Tape & Reel; VDS [max] (V): 12; VGSth [typ] (V): 0.7; DatasheetVersion: Rev. 01; PackageVersion: 06-03-16, 03/2006; PackageReference: SOT457; PackageDescription: 6-Pin Thin Small Outline Package, Body 2.9 x 1.5 mm, Pitch 0.95 mm; Supplier 1: Digi-Key; Supplier Part Number 1: PMN28UN,165-ND; Supplier 2: Mouser; Supplier Part Number 2: 771-PMN28UN165; Mounting Technology: Surface Mount; Code_JEITA: SC-74; ComponentLink1Description: Manufacturer URL; ComponentLink1URL: http://www.nxp.com/; ComponentLink2Description: Datasheet; ComponentLink2URL: http://www.nxp.com/documents/data_sheet/PMN28UN.pdf; ComponentLink3Description: Package Specification; ComponentLink3URL: http://www.nxp.com/documents/outline_drawing/sot457_po.pdf
footprint NXP-SOT457_N (SOP, 6-Leads, Body 3.1x1.7mm, Pitch 0.95mm, IPC Medium Density)
footprint NXP-SOT457_L (SOP, 6-Leads, Body 3.1x1.7mm, Pitch 0.95mm, IPC High Density)
footprint NXP-SOT457_M (SOP, 6-Leads, Body 3.1x1.7mm, Pitch 0.95mm, IPC Low Density)
pins: 1 D "drain", 2 D "drain", 3 G "gate", 4 S "source", 5 D "drain", 6 D "drain"
text: 1, 2, 5, 6

## PMN34UP,115
designator Q?
P-Channel Trench MOSFET, -20 V, -5 A, -55 to 150 degC, 6-Pin SOT457, Tape and Reel; Manufacturer: NXP Semiconductors; PartNumber: PMN34UP,115; Channel Type: P; Ciss [typ] (pF): 1950; Coss [typ] (pF): 175; Packing: Tape & Reel; VGSth [typ] (V): -0.7; DatasheetVersion: Rev. 1; PackageVersion: 06-03-16, 03/2006; PackageReference: SOT457; PackageDescription: 6-Pin Thin Small Outline Package, Body 2.9 x 1.5 mm, Pitch 0.95 mm; Supplier 1: Digi-Key; Supplier Part Number 1: 568-10799-2-ND; Supplier 2: Digi-Key; Supplier Part Number 2: 568-10799-1-ND; Supplier 3: Digi-Key; Supplier Part Number 3: 568-10799-6-ND; Supplier 4: Mouser; Supplier Part Number 4: 771-PMN34UP,115; ID [max] (A): -5; VDS [max] (V): -20; Mounting Technology: Surface Mount; Code_JEITA: SC-74; ComponentLink1Description: Manufacturer URL; ComponentLink1URL: http://www.nxp.com/; ComponentLink2Description: Datasheet; ComponentLink2URL: http://www.nxp.com/documents/data_sheet/PMN34UP.pdf; ComponentLink3Description: Package Specification; ComponentLink3URL: http://www.nxp.com/documents/outline_drawing/sot457_po.pdf
footprint NXP-SOT457_N (SOP, 6-Leads, Body 3.1x1.7mm, Pitch 0.95mm, IPC Medium Density)
footprint NXP-SOT457_L (SOP, 6-Leads, Body 3.1x1.7mm, Pitch 0.95mm, IPC High Density)
footprint NXP-SOT457_M (SOP, 6-Leads, Body 3.1x1.7mm, Pitch 0.95mm, IPC Low Density)
pins: 1 D "drain", 2 D "drain", 3 G "gate", 4 S "source", 5 D "drain", 6 D "drain"
text: 1, 2, 5, 6

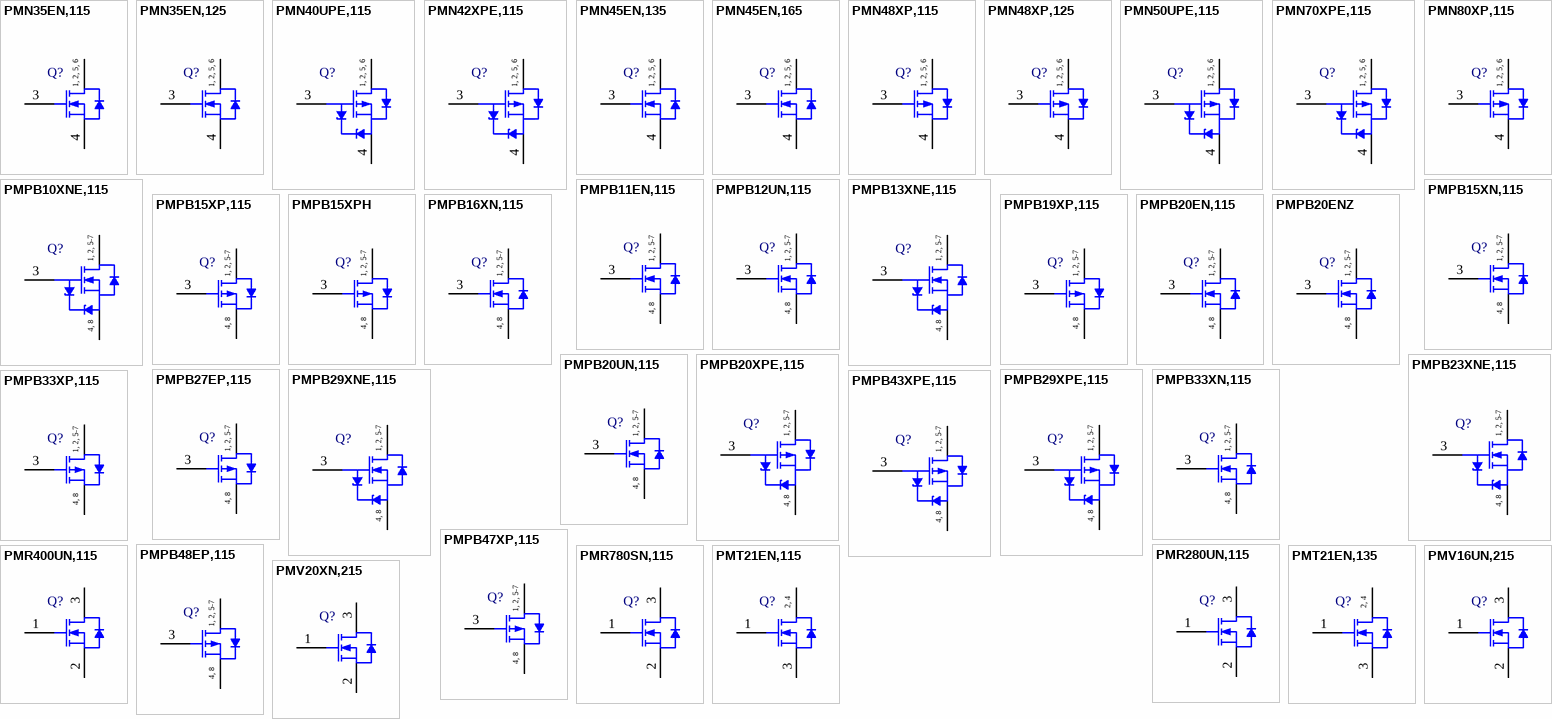
[diagram p5: symbols PMN35EN,115 to PMV20XN,215]

## PMN35EN,115
designator Q?
N-Channel Trench MOSFET, 30 V, 5.1 A, -55 to 150 degC, 6-Pin SOT457, Tape and Reel; Manufacturer: NXP Semiconductors; PartNumber: PMN35EN,115; Channel Type: N; Ciss [typ] (pF): 334; Coss [typ] (pF): 81; ID [max] (A): 5.1; Packing: Tape & Reel; VDS [max] (V): 30; VGSth [typ] (V): 1.5; DatasheetVersion: Rev. 1; PackageVersion: 06-03-16, 03/2006; PackageReference: SOT457; PackageDescription: 6-Pin Thin Small Outline Package, Body 2.9 x 1.5 mm, Pitch 0.95 mm; Supplier 1: Digi-Key; Supplier Part Number 1: PMN35EN,115-ND; Supplier 2: Mouser; Supplier Part Number 2: 771-PMN35EN,115; Mounting Technology: Surface Mount; Code_JEITA: SC-74; ComponentLink1Description: Manufacturer URL; ComponentLink1URL: http://www.nxp.com/; ComponentLink2Description: Datasheet; ComponentLink2URL: http://www.nxp.com/documents/data_sheet/PMN35EN.pdf; ComponentLink3Description: Package Specification; ComponentLink3URL: http://www.nxp.com/documents/outline_drawing/sot457_po.pdf
footprint NXP-SOT457_N (SOP, 6-Leads, Body 3.1x1.7mm, Pitch 0.95mm, IPC Medium Density)
footprint NXP-SOT457_L (SOP, 6-Leads, Body 3.1x1.7mm, Pitch 0.95mm, IPC High Density)
footprint NXP-SOT457_M (SOP, 6-Leads, Body 3.1x1.7mm, Pitch 0.95mm, IPC Low Density)
pins: 1 D "drain", 2 D "drain", 3 G "gate", 4 S "source", 5 D "drain", 6 D "drain"
text: 1, 2, 5, 6

## PMN35EN,125
designator Q?
N-Channel Trench MOSFET, 30 V, 5.1 A, -55 to 150 degC, 6-Pin SOT457, Tape and Reel; Manufacturer: NXP Semiconductors; PartNumber: PMN35EN,125; Channel Type: N; Ciss [typ] (pF): 334; Coss [typ] (pF): 81; ID [max] (A): 5.1; Packing: Tape & Reel; VDS [max] (V): 30; VGSth [typ] (V): 1.5; DatasheetVersion: Rev. 1; PackageVersion: 06-03-16, 03/2006; PackageReference: SOT457; PackageDescription: 6-Pin Thin Small Outline Package, Body 2.9 x 1.5 mm, Pitch 0.95 mm; Supplier 1: Digi-Key; Supplier Part Number 1: 568-10800-2-ND; Supplier 2: Digi-Key; Supplier Part Number 2: 568-10800-1-ND; Supplier 3: Digi-Key; Supplier Part Number 3: 568-10800-6-ND; Supplier 4: Mouser; Supplier Part Number 4: 771-PMN35EN125; Mounting Technology: Surface Mount; Code_JEITA: SC-74; ComponentLink1Description: Manufacturer URL; ComponentLink1URL: http://www.nxp.com/; ComponentLink2Description: Datasheet; ComponentLink2URL: http://www.nxp.com/documents/data_sheet/PMN35EN.pdf; ComponentLink3Description: Package Specification; ComponentLink3URL: http://www.nxp.com/documents/outline_drawing/sot457_po.pdf
footprint NXP-SOT457_N (SOP, 6-Leads, Body 3.1x1.7mm, Pitch 0.95mm, IPC Medium Density)
footprint NXP-SOT457_L (SOP, 6-Leads, Body 3.1x1.7mm, Pitch 0.95mm, IPC High Density)
footprint NXP-SOT457_M (SOP, 6-Leads, Body 3.1x1.7mm, Pitch 0.95mm, IPC Low Density)
pins: 1 D "drain", 2 D "drain", 3 G "gate", 4 S "source", 5 D "drain", 6 D "drain"
text: 1, 2, 5, 6